# Altium schematic symbol library AT24C64_SO8.SchLib: 1 symbol
Pins are listed as number, name and electrical type; pins without a type are passive.

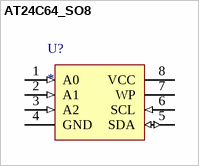
[diagram p0: symbol AT24C64_SO8]

## AT24C64_SO8
designator U?
pins: 1 A0 (in), 2 A1 (in), 3 A2 (in), 4 GND (power), 5 SDA (io), 6 SCL (in), 7 WP, 8 VCC (power)